# EAGLE library part 5499345-1 (library Tyco_By_element14_Batch_1)
WIRE-BOARD CONN, HEADER, 10POS
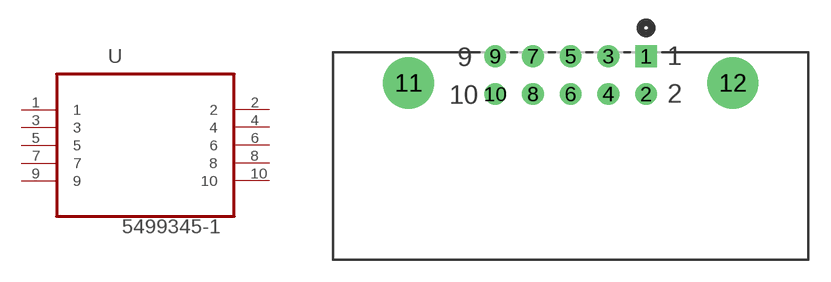
[diagram p133: symbol with the pads of TYCO_5499345-1; footprint TYCO_5499345-1]

Designator prefix U

## 5499345-1 (MPN: 5499345-1; OC_FARNELL: 1821855; OC_NEWARK: 04R6646; PACKAGE: 10 WAY HEADER; SUPPLIER: TycoElectronics)  [TYCO_5499345-1]
1  1  pas
2  2  pas
3  3  pas
4  4  pas
5  5  pas
6  6  pas
7  7  pas
8  8  pas
9  9  pas
10  10  pas

## Footprint TYCO_5499345-1 (pad centres in mm)
drill 0.965 square: 1 10.16,2.54
drill 0.965: 2 10.16,0; 3 7.62,2.54; 4 7.62,0; 5 5.08,2.54; 6 5.08,0; 7 2.54,2.54; 8 2.54,0; 9 0,2.54; 10 0,0
drill 2.438: 11 -5.842,0.737; 12 16.002,0.737